# Altium integrated library ESP_WROVER_MODULE.IntLib: 1 symbol
Pins are listed as number, name and electrical type; pins without a type are passive.

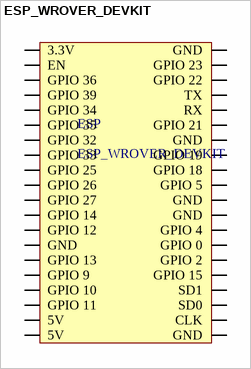
[diagram p0: symbol ESP_WROVER_DEVKIT]

## ESP_WROVER_DEVKIT
designator ESP
footprint ESP_WROVER_DEVKIT
pins: 1 3.3V (power), 2 EN, 3 GPIO 36 (io), 4 GPIO 39 (io), 5 GPIO 34 (io), 6 GPIO 35 (io), 7 GPIO 32 (io), 8 GPIO 33 (io), 9 GPIO 25 (io), 10 GPIO 26 (io), 11 GPIO 27 (io), 12 GPIO 14 (io), 13 GPIO 12 (io), 14 GND (power), 15 GPIO 13 (io), 16 GPIO 9 (io), 17 GPIO 10 (io), 18 GPIO 11 (io), 19 5V (power), 20 5V (power), 21 GND (power), 22 GPIO 23 (io), 23 GPIO 22 (io), 24 TX (io), 25 RX (io), 26 GPIO 21 (io), 27 GND (power), 28 GPIO 19 (io), 29 GPIO 18 (io), 30 GPIO 5 (io), 31 GND (power), 32 GND (power), 33 GPIO 4 (io), 34 GPIO 0 (io), 35 GPIO 2 (io), 36 GPIO 15 (io), 37 SD1 (io), 38 SD0 (io), 39 CLK (io), 40 GND (power)